# Altium schematic symbol library STM32F031E6Y6TR.SchLib: 1 symbol
Pins are listed as number, name and electrical type; pins without a type are passive.

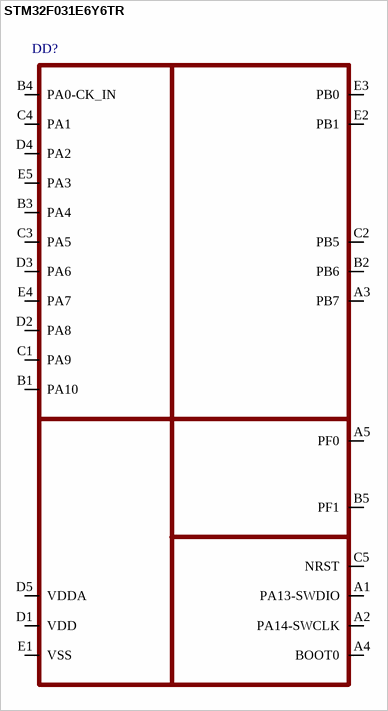
[diagram p0: symbol STM32F031E6Y6TR]

## STM32F031E6Y6TR
designator DD?
pins: A1 PA13-SWDIO, A2 PA14-SWCLK, A3 PB7, A4 BOOT0, A5 PF0, B1 PA10, B2 PB6, B3 PA4, B4 PA0-CK_IN, B5 PF1, C1 PA9, C2 PB5, C3 PA5, C4 PA1, C5 NRST, D1 VDD, D2 PA8, D3 PA6, D4 PA2, D5 VDDA, E1 VSS, E2 PB1, E3 PB0, E4 PA7, E5 PA3